# EAGLE library part LED_BARGRAPH_6 (library SynthLib)
10-Segment LED Bar Graph SFE part numbers: COM-09935 (red, Vf = 2.1V, Ifmax = 20mA) COM-09936 (yellow, Vf = 2.1V, Ifmax = 20mA) COM-09937 (blue, Vf = 3.4V, Ifmax = 20mA) COM-09938 (green, Vf = 3.4V, Ifmax = 20mA)
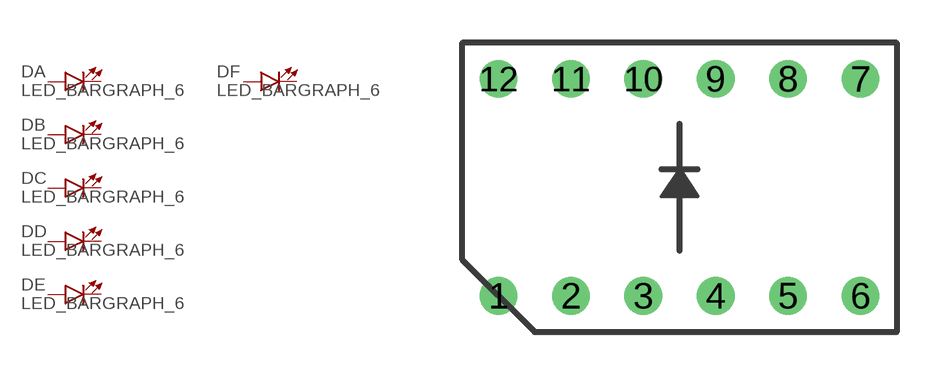
[diagram p1: symbol with the pads of LED_BARGRAPH_6; footprint LED_BARGRAPH_6]

Designator prefix D; gates A=LED_BARGRAPH_6 B=LED_BARGRAPH_6 C=LED_BARGRAPH_6 D=LED_BARGRAPH_6 E=LED_BARGRAPH_6 F=LED_BARGRAPH_6

## LED_BARGRAPH_6  [LED_BARGRAPH_6]
1  A:A  pas
2  B:A  pas
3  C:A  pas
4  D:A  pas
5  E:A  pas
6  F:A  pas
7  F:C  pas
8  E:C  pas
9  D:C  pas
10  C:C  pas
11  B:C  pas
12  A:C  pas

## Footprint LED_BARGRAPH_6 (pad centres in mm)
Dual In Line Package
drill 0.813: 1 -6.35,-3.81; 2 -3.81,-3.81; 3 -1.27,-3.81; 4 1.27,-3.81; 5 3.81,-3.81; 6 6.35,-3.81; 7 6.35,3.81; 8 3.81,3.81; 9 1.27,3.81; 10 -1.27,3.81; 11 -3.81,3.81; 12 -6.35,3.81